# Altium footprint library 629105150921.PcbLib: 1 footprints
Each footprint in its own frame and in the unit in brackets; x right, y up, seen from the top. Pads: shape width x height; smd on the part's side, far side on the other; paste and mask are expansions set on the pad; w line width, h text height; cw(c..) or ccw(c..) is an arc to the next point about the centre after c.
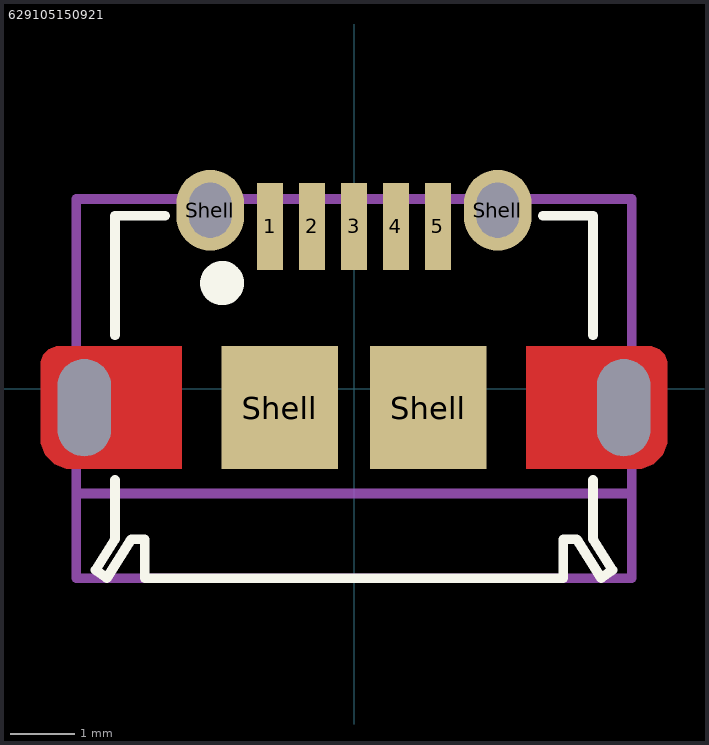
[diagram p0: the footprint, top view; thin cyan lines are the x and y axes]

## 629105150921 [mm] "Micro USB 2.0 Type AB Horizontal"
height 3
pads (11):
  rect 0.4x1.35 smd: 1(-1.3,2.51) 2(-0.65,2.51) 3(0,2.51) 4(0.65,2.51) 5(1.3,2.51)
  round 0 / inner round 0 / far side oval 1.4x2.1 hole 0.825 slot 1.5 at 90 deg: Shell(-4.175,-0.295) Shell(4.175,-0.295)
  oval 1.05x1.25 hole 0.65 slot 0.85 at 90 deg: Shell(-2.225,2.76) Shell(2.225,2.76)
  rect 1.8x1.9 smd: Shell(-1.15,-0.295) Shell(1.15,-0.295)
Top Layer:
  region: -4.353,-1.245 -4.452,-1.245 -4.636,-1.169 -4.776,-1.028 -4.852,-0.844 -4.852,-0.745 -4.852,0.355 -4.852,0.415 -4.807,0.525 -4.722,0.609 -4.612,0.655 -4.553,0.655 -2.668,0.655 -2.668,-1.245
  region: 4.353,-1.245 4.452,-1.245 4.636,-1.169 4.776,-1.028 4.852,-0.844 4.852,-0.745 4.852,0.355 4.852,0.415 4.807,0.525 4.722,0.609 4.612,0.655 4.553,0.655 2.668,0.655 2.668,-1.245
Top Overlay:
  circle w0.4: c-2.041,1.632 r0.141
  lines w0.15: -3.7,-1.415 -3.7,-2.335 -4,-2.81 -3.825,-2.935 -3.45,-2.335 -3.24,-2.335 -3.24,-2.935 3.24,-2.935 3.24,-2.335 3.45,-2.335 3.825,-2.935 4,-2.81 3.7,-2.335 3.7,-1.415 ; -3.7,0.825 -3.7,2.675 -2.92,2.675 ; 2.92,2.675 3.7,2.675 3.7,0.825
Mechanical 13:
  lines w0.15: -4.3,-2.935 -4.3,2.935 4.3,2.935 4.3,-2.935 -4.3,-2.935
Mechanical 15:
  lines w0.15: -4.3,-1.625 4.3,-1.625
  text "PCB Edge" at -1.9,-2.5 h1
3D body "629105150921.stp": height 2.78, standoff -0.5, extent -4.3,-2.935 4.3,2.935